# Altium schematic symbol library L298P013TR.Schlib: 1 symbol
Pins are listed as number, name and electrical type; pins without a type are passive.

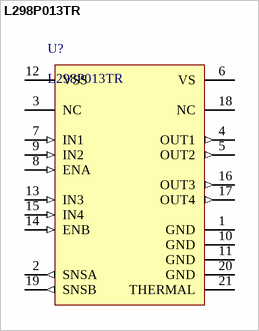
[diagram p0: symbol L298P013TR]

## L298P013TR
designator U?
Half Bridge (4) Driver DC Motors, Relays, Solenoids, Stepper Motors Bipolar PowerSO-20
pins: 1 GND (power), 2 SNSA (out), 3 NC, 4 OUT1 (out), 5 OUT2 (out), 6 VS (power), 7 IN1 (in), 8 ENA (in), 9 IN2 (in), 10 GND (power), 11 GND (power), 12 VSS (power), 13 IN3 (in), 14 ENB (in), 15 IN4 (in), 16 OUT3 (out), 17 OUT4 (out), 18 NC, 19 SNSB (out), 20 GND (power), 21 THERMAL